# Altium footprint library LED-v3.0.PcbLib: 1 footprints
Each footprint in its own frame and in the unit in brackets; x right, y up, seen from the top. Pads: shape width x height; smd on the part's side, far side on the other; paste and mask are expansions set on the pad; w line width, h text height; cw(c..) or ccw(c..) is an arc to the next point about the centre after c.
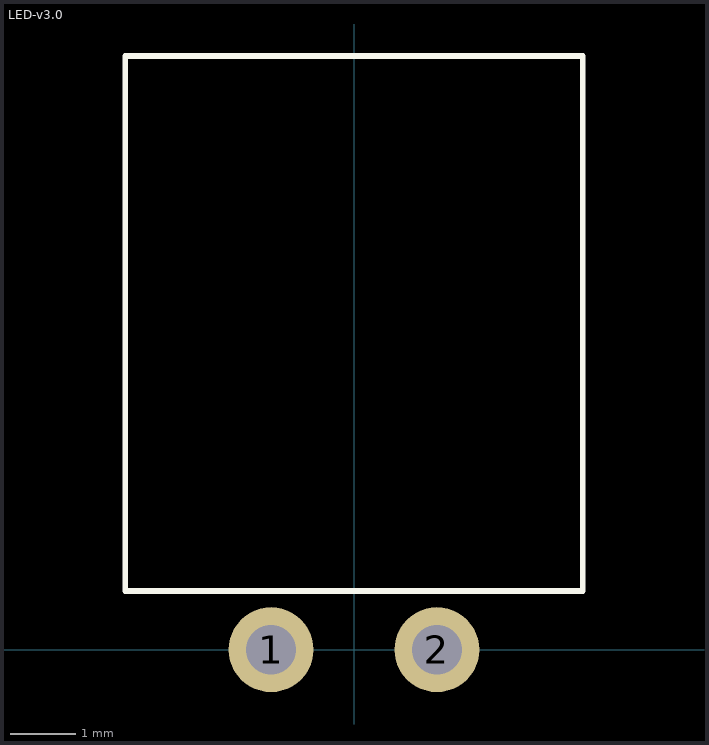
[diagram p0: the footprint, top view; thin cyan lines are the x and y axes]

## LED-v3.0 [mm]
pads (2):
  round 1.3 hole 0.762: 1(-1.27,0) 2(1.27,0)
Top Overlay:
  lines w0.09: -3.5,0.9 -3.5,9.089 3.5,9.089 3.5,0.9 -3.5,0.9